# EAGLE library part TRANSFORMER_LAN_SINGLE_RX_TX (library !GPLIB_PASSIVE)
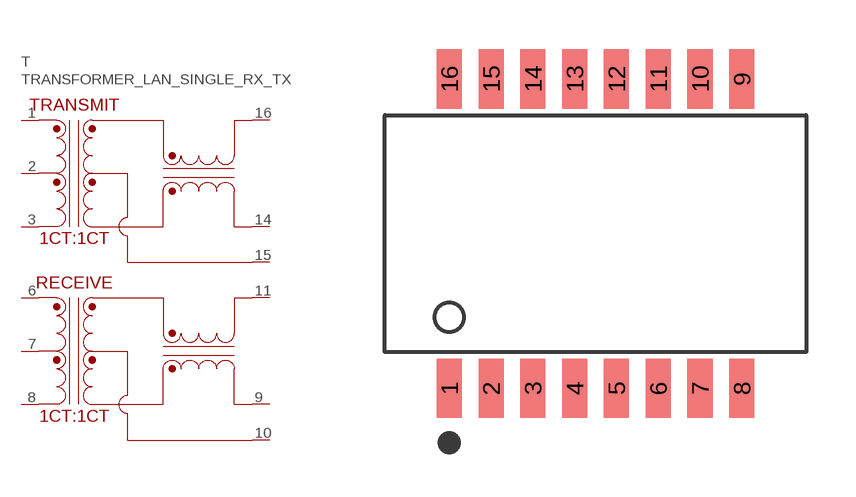
[diagram p7: symbol with the pads of SMD-16P_12.7X9.5MM; footprint SMD-16P_12.7X9.5MM]

Designator prefix T

## TRANSFORMER_LAN_SINGLE_RX_TX_HR641680E  [SMD-16P_12.7X9.5MM]
1  TD+  pas
2  TD-CT  pas
3  TD-  pas
6  RD+  pas
7  RD-CT  pas
8  RD-  pas
9  RX-  pas
10  RX-CT  pas
11  RX+  pas
14  TX-  pas
15  TX-CT  pas
16  TX+  pas

## Footprint SMD-16P_12.7X9.5MM (pad centres in mm)
smd 0.76 x 1.8: 1 -4.445,-4.7; 2 -3.175,-4.7; 3 -1.905,-4.7; 4 -0.635,-4.7; 5 0.635,-4.7; 6 1.905,-4.7; 7 3.175,-4.7; 8 4.445,-4.7; 9 4.445,4.7; 10 3.175,4.7; 11 1.905,4.7; 12 0.635,4.7; 13 -0.635,4.7; 14 -1.905,4.7; 15 -3.175,4.7; 16 -4.445,4.7